# Altium schematic symbol library WispLib.SchLib: 61 symbols
Pins are listed as number, name and electrical type; pins without a type are passive.

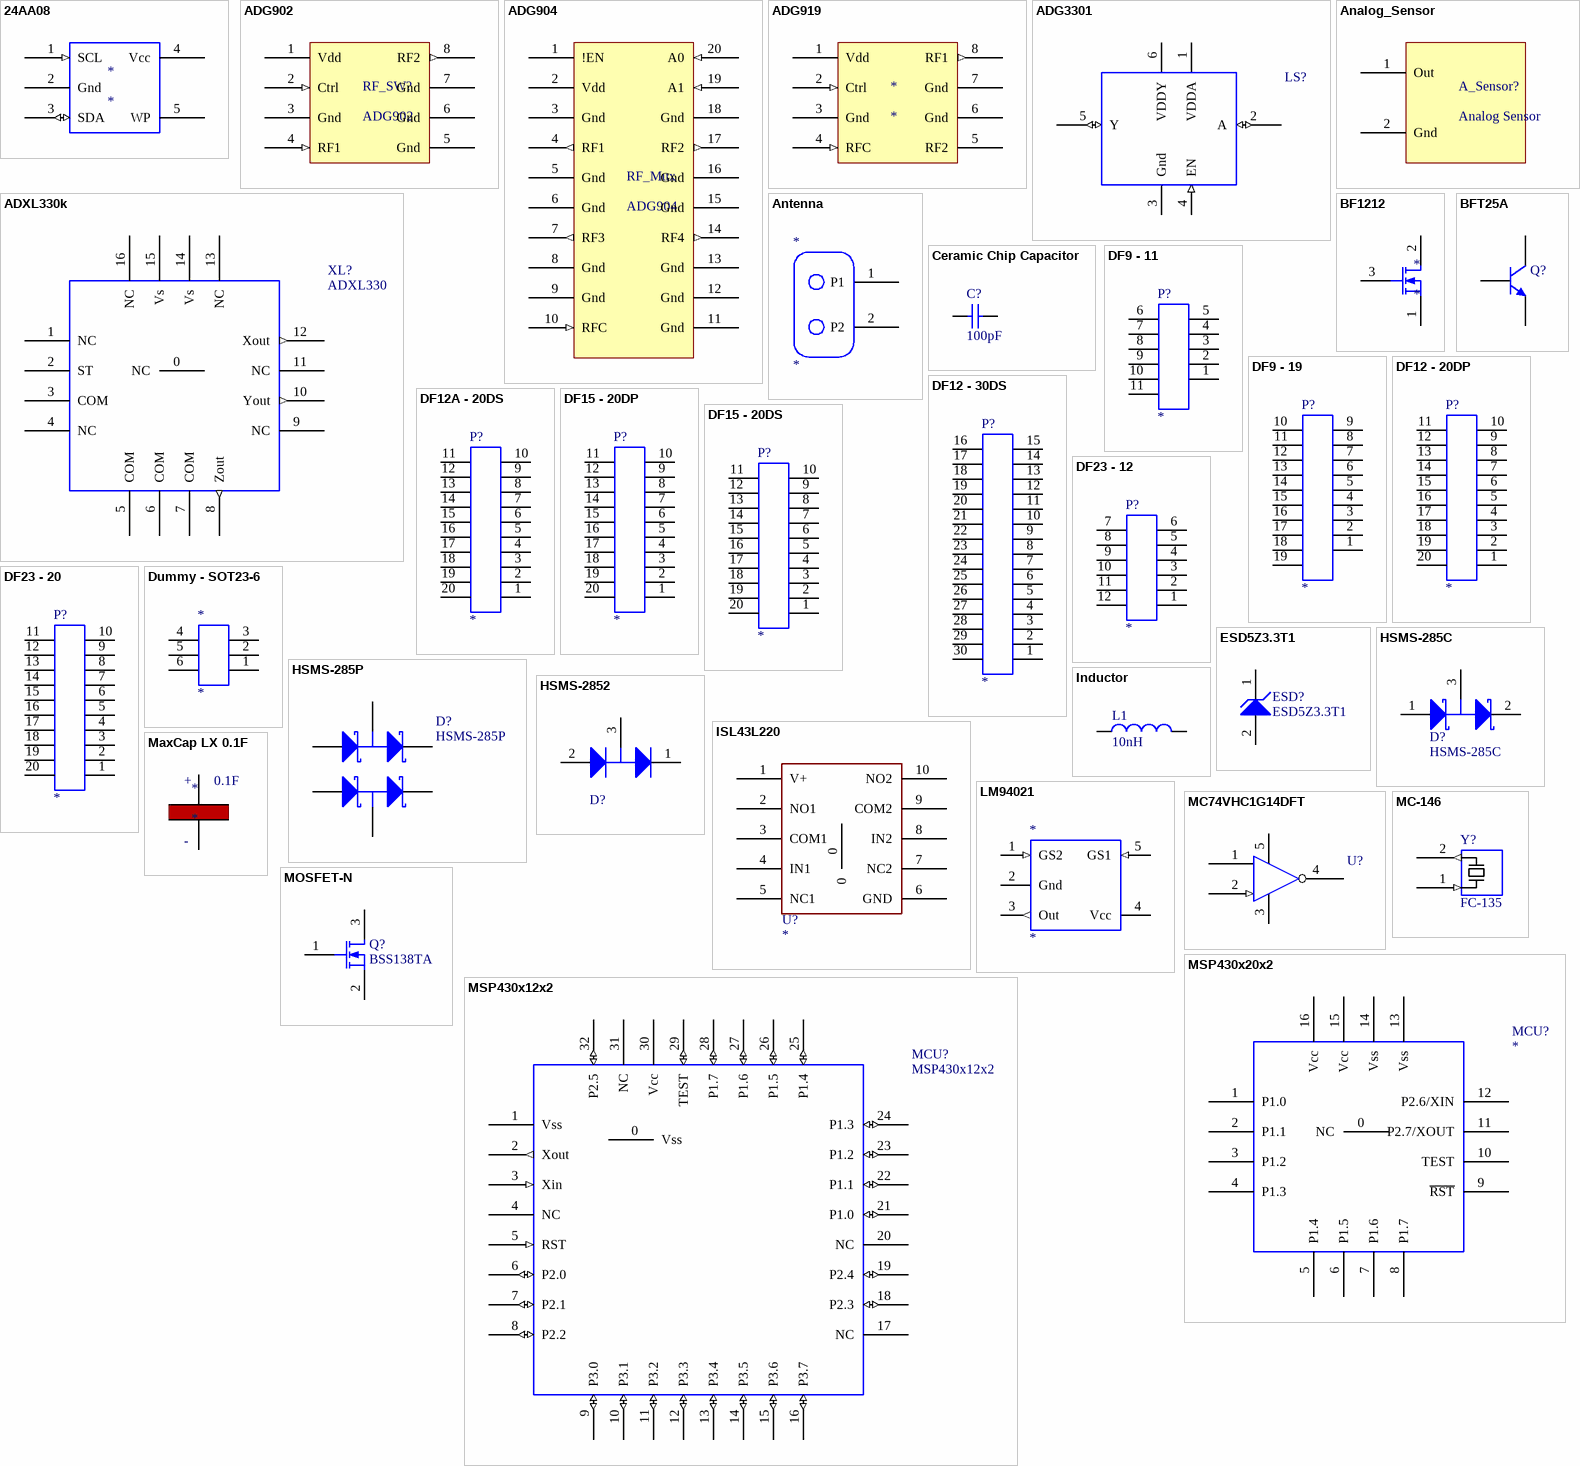
[diagram p0: symbols 24AA08 to MSP430x20x2]

## 24AA08
designator *
Microchip Technology - I2C SERIAL 8K EEPROM - 1.7v
footprint SOT-23-5 (SOT23, 5-Leads, Body 3.0x3.0mm (max), Pitch 0.95mm, IPC Medium Density)
pins: 1 SCL (in) "Serial Clock", 2 Gnd, 3 SDA (io) "Serial Address/Data I/O", 4 Vcc, 5 WP "Write_Protect Input"

## ADG902
designator RF_SW?
RF SPDT switch - Reflective
pins: 1 Vdd (power), 2 Ctrl (in), 3 Gnd (power), 4 RF1 (in), 5 Gnd (power), 6 Gnd (power), 7 Gnd (power), 8 RF2 (out)

## ADG904
designator RF_Mux
4:1 Mux/SP4T
footprint 20TSSOP-0.65-PITCH
pins: 1 !EN (power), 2 Vdd (power), 3 Gnd (power), 4 RF1 (out), 5 Gnd (power), 6 Gnd (power), 7 RF3 (out), 8 Gnd (power), 9 Gnd (power), 10 RFC (in), 11 Gnd (power), 12 Gnd (power), 13 Gnd (power), 14 RF4 (out), 15 Gnd (power), 16 Gnd (power), 17 RF2 (out), 18 Gnd (power), 19 A1 (in), 20 A0 (in)

## ADG919
designator *
RF 2:1 MUX/SPDT Reflective
footprint MSOP_8pin
pins: 1 Vdd (power), 2 Ctrl (in), 3 Gnd (power), 4 RFC (in), 5 RF2 (power), 6 Gnd (power), 7 Gnd (power), 8 RF1 (out)

## ADG3301
designator LS?  (value not drawn)
Level Shifter  Ensure:  VccA < VccY; DNS: Do Not Stuff Part; Part Number: ADG3301
footprint sc70-6 (DIP; 24 Leads; Row Spacing 15.24 mm; Pitch 2.54 mm)
pins: 1 VDDA (power), 2 A (io) "Low Voltage IO", 3 Gnd (power), 4 EN (in) "Enable Output Translation", 5 Y (io) "High Voltage IO", 6 VDDY (power)

## ADXL330k
designator XL?, comment ADXL330
Analog Devices 3D Accelerometer
footprint 32-QFN - Gnd Pad Only (32-QFN, Gnd Pad Only, for MSP430F1232)
pins: 0 NC, 1 NC, 2 ST "Self Test", 3 COM (power) "GND", 4 NC, 5 COM (power) "GND", 6 COM (power) "GND", 7 COM (power) "GND", 8 Zout (out) "Output", 9 NC, 10 Yout (out), 11 NC, 12 Xout (out) "Output", 13 NC, 14 Vs (power) "2V to 3.6V", 15 Vs (power) "2V to 3.6V", 16 NC

## Analog_Sensor
designator A_Sensor?, comment Analog Sensor
pins: 1 Out, 2 Gnd

## Antenna
designator *
footprint antenna
pins: 1 P1 "Output", 2 P2 "Output"

## BF1212
designator *
footprint sot343r (SOT343R Package for BF1212)
pins: 1 S, 2 D, 3 G

## BFT25A
designator Q?
NPN 5 GHz Wideband Transistor; Part Number: BFT25A; DNS: Do Not Stuff Part; PackageReference: SOT23
footprint SOT-23 (SOT-23; 3 Leads; Body 3.0 x 2.5 mm, inc. leads (LxW max))
pins: 1 B, 2 E, 3 C

## Ceramic Chip Capacitor
designator C?  value 100pF
Ceramic Capacitor - Standard; DNS: Do Not Stuff Part; Note: *
footprint 0402 (Chip Capacitor; Body 1.0 x 0.5 mm (LxW typ))
footprint 0603 (Chip Capacitor; Body 1.6 x 0.8 mm (LxW typ))
footprint 0805 (Chip Capacitor; Body 2.0 x 1.2 mm (LxW typ))
footprint 1206 (Chip Capacitor; Body 3.2 x 1.6 mm (LxW typ))
footprint 1210 (Chip Capacitor; Body 3.2 x 2.5 mm (LxW typ))
footprint 1812 (Chip Capacitor; Body 4.5 x 3.2 mm (LxW typ))
footprint 1825 (Chip Capacitor; Body 4.5 x 6.4 mm (LxW typ))
pins: 1, 2

## DF9 - 11
designator P?
DF9 - 11 Connector; DNS: Do Not Stuff
footprint DF9 -11 Connector (DF9 -11, 11Pin Connector)
pins: 1, 2, 3, 4, 5, 6, 7, 8, 9, 10, 11

## DF9 - 19
designator P?
DF9 - 19 Connector; DNS: Do Not Stuff
footprint DF9 -19 Connector (DF9 -19, 19 Pin Connector)
pins: 1, 2, 3, 4, 5, 6, 7, 8, 9, 10, 11, 12, 13, 14, 15, 16, 17, 18, 19

## DF12 - 20DP
designator P?
DF12 - 20DP, Connector Header; DNS: Do Not Stuff
footprint DF12 - 20DP (DF12 - 20DP, Connector Header)
pins: 1, 2, 3, 4, 5, 6, 7, 8, 9, 10, 11, 12, 13, 14, 15, 16, 17, 18, 19, 20

## DF12 - 30DS
designator P?
DF12 - 30DS, Connector Receptacle; DNS: Do Not Stuff
footprint DF12 - 30DS (DF12 - 30DS, Connector Receptacle)
pins: 1, 2, 3, 4, 5, 6, 7, 8, 9, 10, 11, 12, 13, 14, 15, 16, 17, 18, 19, 20, 21, 22, 23, 24, 25, 26, 27, 28, 29, 30

## DF12A - 20DS
designator P?
DF12A - 20DS, Connector Receptacle; DNS: Do Not Stuff
footprint DF12 - 20DS (DF12 - 20DS, Connector Receptacle)
pins: 1, 2, 3, 4, 5, 6, 7, 8, 9, 10, 11, 12, 13, 14, 15, 16, 17, 18, 19, 20

## DF15 - 20DP
designator P?
DF15 - 20DP, Connector Header; DNS: Do Not Stuff
footprint DF15 - 20DP (DF15 - 20DP, Connector Header)
pins: 1, 2, 3, 4, 5, 6, 7, 8, 9, 10, 11, 12, 13, 14, 15, 16, 17, 18, 19, 20

## DF15 - 20DS
designator P?
DF15 - 20DS, Connector Receptacle; DNS: Do Not Stuff
footprint DF15 - 20DS (DF15 - 20DS, Connector Receptacle)
pins: 1, 2, 3, 4, 5, 6, 7, 8, 9, 10, 11, 12, 13, 14, 15, 16, 17, 18, 19, 20

## DF23 - 12
designator P?
DF23 - 12, Connector; DNS: Do Not Stuff
footprint DF23 - 12 (DF23 - 12, Connector)
pins: 1, 2, 3, 4, 5, 6, 7, 8, 9, 10, 11, 12

## DF23 - 20
designator P?
DF23 - 20 Connector; DNS: Do Not Stuff
footprint DF23 - 20 (DF23 - 20, Connector)
pins: 1, 2, 3, 4, 5, 6, 7, 8, 9, 10, 11, 12, 13, 14, 15, 16, 17, 18, 19, 20

## Dummy - SOT23-6
designator *
Dummy - SOT23-6
footprint SOT23-6 (SOT-457/SC-74; 6 Leads; Body 3 x 3 mm, inc. leads (LxW max))
pins: 1, 2, 3, 4, 5, 6

## ESD5Z3.3T1
designator ESD?
5V Overvoltage Protection Zener
footprint SOD-523 (SOD-523 Footprint)
pins: 1 C, 2 A

## HSMS-285C
designator D?
Agilent Schottky Diode, Bridge Quad, HSMS-285C; Note: *
footprint SOT-323, HSMS-285C (SOT-323/SC-70; 3 Leads; HSMS-285C)
pins: 1 A, 2 K, 3 C

## HSMS-285P
designator D?
Agilent Schottky Diode, Bridge Quad, HSMS-285P; Note: *
footprint SOT-363 (SOT-363 ,SC-88 ,6 Lead)
pins: 1 A, 2 C, 3 K, 4 K, 5 C, 6 A

## HSMS-2852
designator D?  (value not drawn)
Dual Schottky Diode RF
footprint SOT-23  WIDE
pins: 1, 2, 3

## Inductor
designator L1  value 10nH  (hidden comment: Inductor)
Code_JEITA: 0805; Code_IPC: 2012[0805]
footprint 0805 (Chip Capacitor; Body 2.0 x 1.2 mm (LxW typ))
footprint 0603 (Chip Capacitor; Body 1.6 x 0.8 mm (LxW typ))
footprint 1206 (Chip Capacitor; Body 3.2 x 1.6 mm (LxW typ))
footprint 0402 (Chip Capacitor; Body 1.0 x 0.5 mm (LxW typ))
pins: 1, 2

## ISL43L220
designator U?
Ultra Low ON-Resistance, Low Voltage, Single Supply, Dual SPDT Analog Switch
footprint Thin Dual Flat No-Lead plastic Package (TDFN, 10-Leads, Body 3.0x3.0mm (max), Pitch 0.50mm, IPC Medium Density)
pins: 0, 1 V+, 2 NO1, 3 COM1, 4 IN1, 5 NC1, 6 GND, 7 NC2, 8 IN2, 9 COM2, 10 NO2

## LM94021
designator *
Temperature Sensor
footprint SC70 (Ultra low Power LDO - TI)
pins: 1 GS2 (in) "Gain Select 2", 2 Gnd (power), 3 Out (out) "Enable Output Translation", 4 Vcc (power) "Low Voltage IO", 5 GS1 (in) "Gain Select 1"

## MaxCap LX 0.1F
designator *
MaxCap LX 0.1F, low leakage supper cap 5.5v
footprint Maxcap LX 0.1F (Maxcap LX Series, 0.1F, Diameter  11mm, Leads 5.1mm)
pins: 1 Positive (power), 2 GND (power)
text: +; 0.1F; -

## MC74VHC1G14DFT
designator U?  (value not drawn)
1uA CMOS Schmitt-Trigger Inverter
footprint SC70-5
pins: 1 NC, 2 A (in) "Input", 3 Gnd (power), 4 Y "Output", 5 VDD (power)

## MC-146
designator Y?, comment FC-135
FC-135 Crystal D-K SE2416CT (MC-146)
footprint FC-135 (FC-135   crystal - epson eletronics)
pins: 1 (in) "Output", 2 (out) "Output"

## MOSFET-N
designator Q?, comment BSS138TA
N-Channel MOSFET; PackageDocument: 1995/1996; Published: 8-Jun-2000; LatestRevisionDate: 17-Jul-2002; LatestRevisionNote: Re-released for DXP Platform.; PackageReference: E3; Publisher: Altium Limited
footprint SOT-23 (SOT-23; 3 Leads; Body 3.0 x 2.5 mm, inc. leads (LxW max))
pins: 1 G, 2 S, 3 D

## MSP430x12x2
designator MCU?
32QFN MSP430x12x2
footprint 32-QFN (32-QFN, for MSP430F1232)
pins: 0 Vss (power) "Output", 1 Vss (power) "Output", 2 Xout (out) "Output", 3 Xin (in) "Output", 4 NC "Output", 5 RST (in) "Output", 6 P2.0 (io) "Output", 7 P2.1 (io) "Output", 8 P2.2 (io) "Output", 9 P3.0 (io) "Output", 10 P3.1 (io) "Output", 11 P3.2 (io) "Output", 12 P3.3 (io) "Output", 13 P3.4 (io) "Output", 14 P3.5 (io) "Output", 15 P3.6 (io) "Output", 16 P3.7 (io) "Output", 17 NC "Output", 18 P2.3 (io) "Output", 19 P2.4 (io) "Output", 20 NC "Output", 21 P1.0 (io) "Output", 22 P1.1 (io) "Output", 23 P1.2 (io) "Output", 24 P1.3 (io) "Output", 25 P1.4 (io) "Output", 26 P1.5 (io) "Output", 27 P1.6 (io) "Output", 28 P1.7 (io) "Output", 29 TEST (io) "Output", 30 Vcc (power) "Output", 31 NC "Output", 32 P2.5 (io) "Output"

## MSP430x20x2
designator MCU?
16QFN MSP430x20x2
footprint 16-QFN (16-QFN, LFCSP (CP-16-5) for ADXL330k)
pins: 0 NC, 1 P1.0, 2 P1.1 "Self Test", 3 P1.2 "GND", 4 P1.3, 5 P1.4 "GND", 6 P1.5 "GND", 7 P1.6 "GND", 8 P1.7 "Output", 9 ~{RST}, 10 TEST, 11 P2.7/XOUT, 12 P2.6/XIN "Output", 13 Vss (power), 14 Vss (power) "2V to 3.6V", 15 Vcc (power) "2V to 3.6V", 16 Vcc (power)

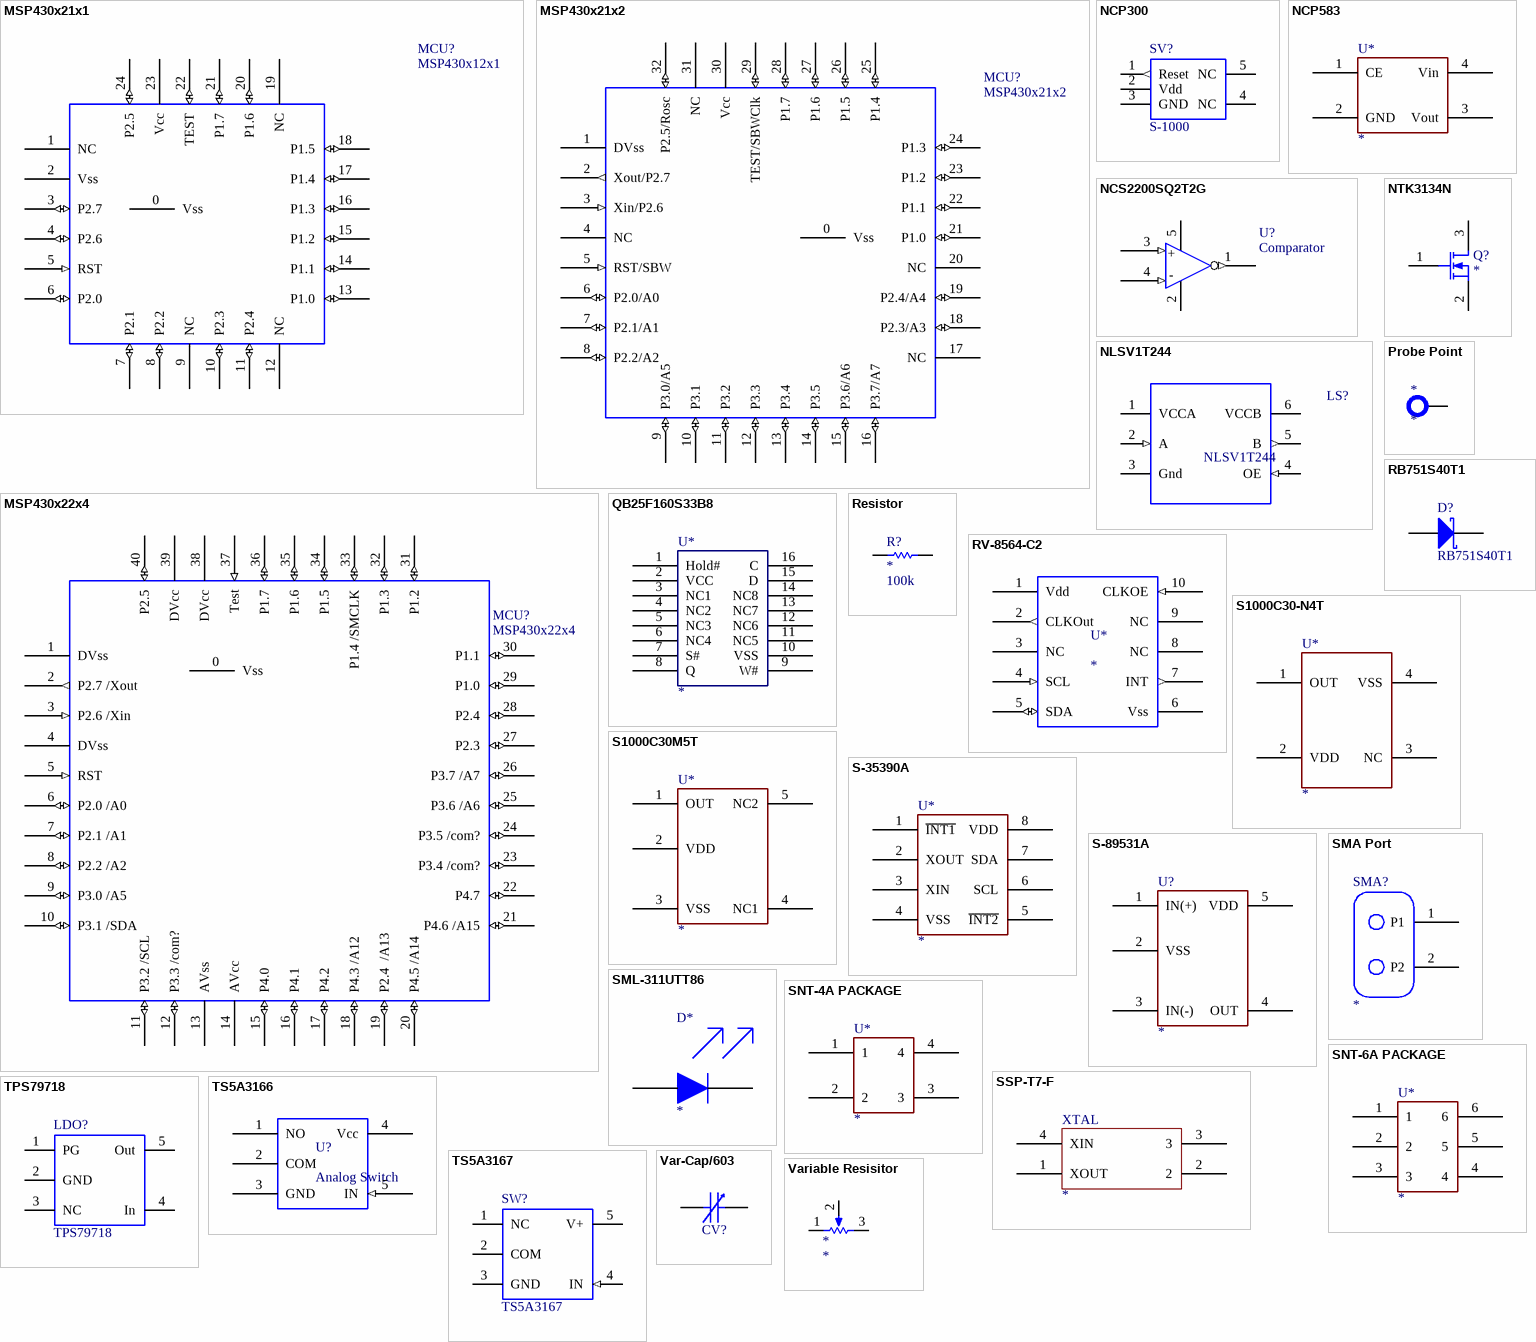
[diagram p1: symbols MSP430x21x1 to Variable Resisitor]

## MSP430x21x1
designator MCU?, comment MSP430x12x1
24QFN MSP430x21x1
footprint 24-QFN (24-QFN, for MSP430Fx21x1)
pins: 0 Vss (power) "Output", 1 NC "Output", 2 Vss (power) "Output", 3 P2.7 (io) "Output", 4 P2.6 (io) "Output", 5 RST (in) "Output", 6 P2.0 (io) "Output", 7 P2.1 (io) "Output", 8 P2.2 (io) "Output", 9 NC "Output", 10 P2.3 (io) "Output", 11 P2.4 (io) "Output", 12 NC "Output", 13 P1.0 (io) "Output", 14 P1.1 (io) "Output", 15 P1.2 (io) "Output", 16 P1.3 (io) "Output", 17 P1.4 (io) "Output", 18 P1.5 (io) "Output", 19 NC "Output", 20 P1.6 (io) "Output", 21 P1.7 (io) "Output", 22 TEST (io) "Output", 23 Vcc (power) "Output", 24 P2.5 (io) "Output"

## MSP430x21x2
designator MCU?
32QFN MSP430x21x2
footprint 32-QFN (32-QFN, for MSP430F1232)
pins: 0 Vss (power) "Output", 1 DVss (power), 2 Xout/P2.7 (out), 3 Xin/P2.6 (in), 4 NC "Output", 5 RST/SBW (in), 6 P2.0/A0 (io), 7 P2.1/A1 (io) "Output", 8 P2.2/A2 (io) "Output", 9 P3.0/A5 (io), 10 P3.1 (io) "Output", 11 P3.2 (io) "Output", 12 P3.3 (io) "Output", 13 P3.4 (io) "Output", 14 P3.5 (io) "Output", 15 P3.6/A6 (io), 16 P3.7/A7 (io), 17 NC "Output", 18 P2.3/A3 (io) "Output", 19 P2.4/A4 (io) "Output", 20 NC "Output", 21 P1.0 (io) "Output", 22 P1.1 (io) "Output", 23 P1.2 (io) "Output", 24 P1.3 (io) "Output", 25 P1.4 (io) "Output", 26 P1.5 (io) "Output", 27 P1.6 (io) "Output", 28 P1.7 (io) "Output", 29 TEST/SBWClk (io) "Output", 30 Vcc (power) "Output", 31 NC "Output", 32 P2.5/Rosc (io) "Output"

## MSP430x22x4
designator MCU?
40QFN MSP430x22x4
footprint 40-QFN (QFN, 40-Leads, Body 6.2x6.2mm (max), Pitch 0.50mm, IPC Medium Density - MSP430x22x4)
pins: 0 Vss (power) "Output", 1 DVss (power) "Output", 2 P2.7 /Xout (out) "Output", 3 P2.6 /Xin (in) "Output", 4 DVss (power) "Output", 5 RST (in), 6 P2.0 /A0 (io), 7 P2.1 /A1 (io), 8 P2.2 /A2 (io), 9 P3.0 /A5 (io), 10 P3.1 /SDA (io), 11 P3.2 /SCL (io), 12 P3.3 /com? (io), 13 AVss (power), 14 AVcc (power), 15 P4.0 (io), 16 P4.1 (io), 17 P4.2 (io), 18 P4.3 /A12 (io), 19 P2.4  /A13 (io), 20 P4.5 /A14 (io), 21 P4.6 /A15 (io), 22 P4.7 (io), 23 P3.4 /com? (io), 24 P3.5 /com? (io), 25 P3.6 /A6 (io), 26 P3.7 /A7 (io), 27 P2.3 (io), 28 P2.4 (io), 29 P1.0 (io), 30 P1.1 (io), 31 P1.2 (io), 32 P1.3 (io), 33 P1.4 /SMCLK (io), 34 P1.5 (io), 35 P1.6 (io), 36 P1.7 (io), 37 Test (in), 38 DVcc (power), 39 DVcc (power), 40 P2.5 (io)

## NCP300
designator SV?, comment S-1000
300nA, 1.8V Supervisor (S-1000 or NCP300LSN)
footprint SOT-23-5 (SOT-23/SC-74A; 5 Leads; Body 3 x 3.1 mm, inc. leads (LxW max))
pins: 1 Reset (out), 2 Vdd (power), 3 GND (power), 4 NC, 5 NC

## NCP583
designator U*
Ultra-Low Iq 150mA CMOS LDO Regulator with Enable
footprint SC82-AB
pins: 1 CE, 2 GND, 3 Vout, 4 Vin

## NCS2200SQ2T2G
designator U?, comment Comparator
On Semi 10uA Comparator
footprint sc70-5 (SC70-5)
pins: 1 OUT (out) "Output", 2 Gnd (power), 3 IN+ (in) "Positive Input", 4 In- (in) "Inverting Input", 5 VDD (power)
text: +; -

## NLSV1T244
designator LS?
Level Shifter: 1-Bit Dual-Supply Non-Inverting Level Translator; Part Number: ADG3301; DNS: Do Not Stuff Part
footprint UDFN6 (UDFN6 - Level Shifter -  NLSV1T244)
pins: 1 VCCA (power) "VDDA", 2 A (in) "Low Voltage IO", 3 Gnd (power), 4 OE (in) "Enable Output Translation", 5 B (out) "High Voltage IO", 6 VCCB (power) "VDDY"

## NTK3134N
designator Q?
Powe Mosfet 20V, 890mA, Single N-channel
footprint SOT723 (SOT723, 3-Leads, Body 1.3x1.3mm (max), Pitch 0.40mm, IPC Medium Density)
pins: 1 G, 2 S, 3 D

## Probe Point
designator *
Probe Point for debug
footprint Probe Point (35mil Pad, 20mil hole size)
pins: 0

## QB25F160S33B8
designator U*
Intel Serial flash memory, 16Mbit, SOIC-16
footprint SOIC16 (SOIC 16)
pins: 1 Hold#, 2 VCC, 3 NC1, 4 NC2, 5 NC3, 6 NC4, 7 S#, 8 Q, 9 W#, 10 VSS, 11 NC5, 12 NC6, 13 NC7, 14 NC8, 15 D, 16 C

## RB751S40T1
designator D?
Schottky Diode; Published: 8-Jun-2000; LatestRevisionDate: 17-Jul-2002; LatestRevisionNote: Re-released for DXP Platform.; PackageReference: SMB; Publisher: Altium Limited; Code_JEDEC: DO-214-AA
footprint SOD-523 (SOD-523 Footprint)
pins: 1 C, 2 A

## Resistor
designator R?  Vaule: 100k
Thick Film Resistor
footprint 0805 (Chip Capacitor; Body 2.0 x 1.2 mm (LxW typ))
footprint 0402 (Chip Capacitor; Body 1.0 x 0.5 mm (LxW typ))
footprint 0603 (Chip Capacitor; Body 1.6 x 0.8 mm (LxW typ))
pins: 1, 2

## RV-8564-C2
designator U*
RV-8564-C2, Real Time Clock
footprint RV-8564-C2 (RV-8564-C2 RTC Package: LCC, 10-Pins, Body 5.2x3.4mm (max), Pitch 1.00mm, IPC Medium Density)
pins: 1 Vdd (power), 2 CLKOut (out), 3 NC, 4 SCL (in), 5 SDA (io), 6 Vss (power), 7 INT (out), 8 NC, 9 NC, 10 CLKOE (in)

## S1000C30-N4T
designator U*
Ultra-small package High precision protection(SC82-AB)
footprint SC82-AB
pins: 1 OUT, 2 VDD, 3 NC, 4 VSS

## S1000C30M5T
designator U*
Ultra small package High precision voltage protection(SOT-23-5)
footprint SOT-23-5 (SOT-23/SC-74A; 5 Leads; Body 3 x 3.1 mm, inc. leads (LxW max))
pins: 1 OUT, 2 VDD, 3 VSS, 4 NC1, 5 NC2

## S-35390A
designator U*
2-WIRE-REAL-TIME CLOCK(SNT-8A)
footprint SNT-8A
pins: 1 ~{INT1}, 2 XOUT, 3 XIN, 4 VSS, 5 ~{INT2}, 6 SCL, 7 SDA, 8 VDD

## S-89531A
designator U?
0.7uA rail to rail cmos comparator
footprint SC-88A (SC-88A 5-Leads, Body 2.2x2.2mm (max), Pitch 0.65mm, IPC Medium Density)
pins: 1 IN(+), 2 VSS, 3 IN(-), 4 OUT, 5 VDD

## SMA Port
designator SMA?
Two pin SMA connector wisp
footprint SMA Port (SMA port for wisp)
pins: 1 P1 "Output", 2 P2 "Output"

## SML-311UTT86
designator D*
LED 630NM RED WTR CLR 0603 SMD
footprint 0603 (Chip Capacitor; Body 1.6 x 0.8 mm (LxW typ))
pins: 1, 2

## SNT-4A PACKAGE
designator U*
SNT-4A PACKAGE
footprint SNT-4A
pins: 1, 2, 3, 4

## SNT-6A PACKAGE
designator U*
SNT-6A PACKAGE
footprint SNT-6A
pins: 1, 2, 3, 4, 5, 6

## SSP-T7-F
designator XTAL
Quartz Crystal-Surface Mount Type for Low Frequency
footprint XTAL 4 PIN
pins: 1 XOUT, 2, 3, 4 XIN

## TPS79718
designator LDO?
Ultra Low Power LDO - TI
footprint SOT-23-5 (SOT-23/SC-74A; 5 Leads; Body 3 x 3.1 mm, inc. leads (LxW max))
pins: 1 PG (oc), 2 GND (power), 3 NC, 4 In (power), 5 Out (power)

## TS5A3166
designator U?, comment Analog Switch
TI Analog Switch 100nA 1ohm Normally Open
footprint sc70-5 (SC70-5)
pins: 1 NO "Analog IO, Normally Open", 2 COM "Analog IO, Normally Open", 3 GND (power) "Ground", 4 Vcc (power) "1.65V to 6.5V", 5 IN (in) "Normally Open Switch Control"

## TS5A3167
designator SW?
TI 500nA, 1.65 to 5.5V Analog SPST Switch
footprint SC70 (Ultra low Power LDO - TI)
footprint SOT-23-5 (SOT-23/SC-74A; 5 Leads; Body 3 x 3.1 mm, inc. leads (LxW max))
pins: 1 NC "Normally Closed Connection", 2 COM "Common Port", 3 GND (power), 4 IN (in) "Control for Normally Closed Switch", 5 V+ (power) "1.65 to 5.5V"

## Var-Cap/603
designator CV?, comment Var Cap  (value not drawn)
Var-Cap 603 Compatible, DK: 490-2009 & SG2026CT; DNS: Do Not Stuff Part; Part Number: *; Digi-Key PN: 490-2009 & SG2026CT
footprint Var-Cap_603 (Var-Cap 603 Compatible, DK: 490-2009 & SG2026CT)
pins: 1 "Output", 2 "Output"

## Variable Resisitor
designator *
footprint Potentiometer-2mm(panasonic)
footprint Potentiometer-3mm(panasonic)
footprint potentiometer-4mm(panasonic)
pins: 1, 2, 3